# Altium schematic symbol library tpd2e001dzdr.SchLib: 1 symbol
Pins are listed as number, name and electrical type; pins without a type are passive.

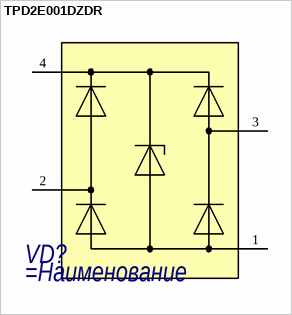
[diagram p0: symbol TPD2E001DZDR]

## TPD2E001DZDR
designator VD?
=Описание
pins: 1 VCC, 2 NC, 3 IO1, 4 GND